# EAGLE library part BEHRINGER_100K_POT (library SKAARHOJ)
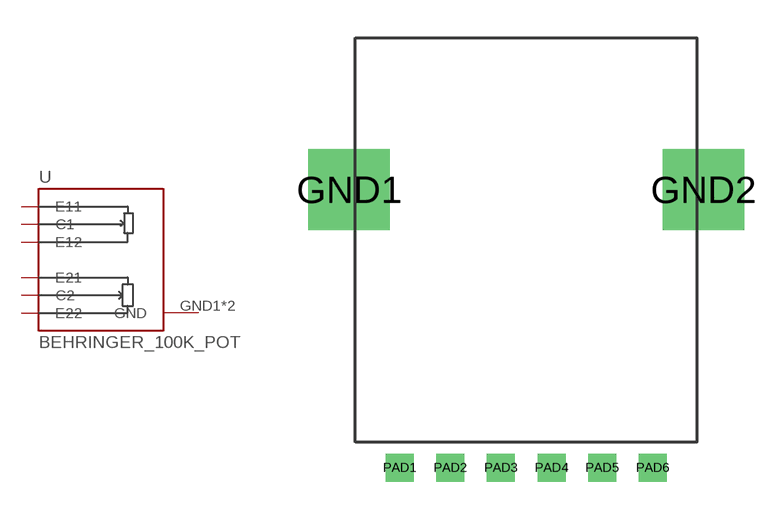
[diagram p8: symbol with the pads of BEHRINGER_100K_POT; footprint BEHRINGER_100K_POT]

Designator prefix -

## BEHRINGER_100K_POT  [BEHRINGER_100K_POT]
GND1  GND  pwr
GND2  GND  pwr
PAD1  C1
PAD2  E11
PAD3  E21
PAD4  C2
PAD5  E22
PAD6  E12

## Footprint BEHRINGER_100K_POT (pad centres in mm)
drill 2.2 square: GND1 -7,0; GND2 7,0
drill 0.6 square: PAD1 -5,-11; PAD2 -3,-11; PAD3 -1,-11; PAD4 1,-11; PAD5 3,-11; PAD6 5,-11